# EAGLE library part CORE3S500E (library Parts)
A Xilinx Spartan 3E FPGA module.
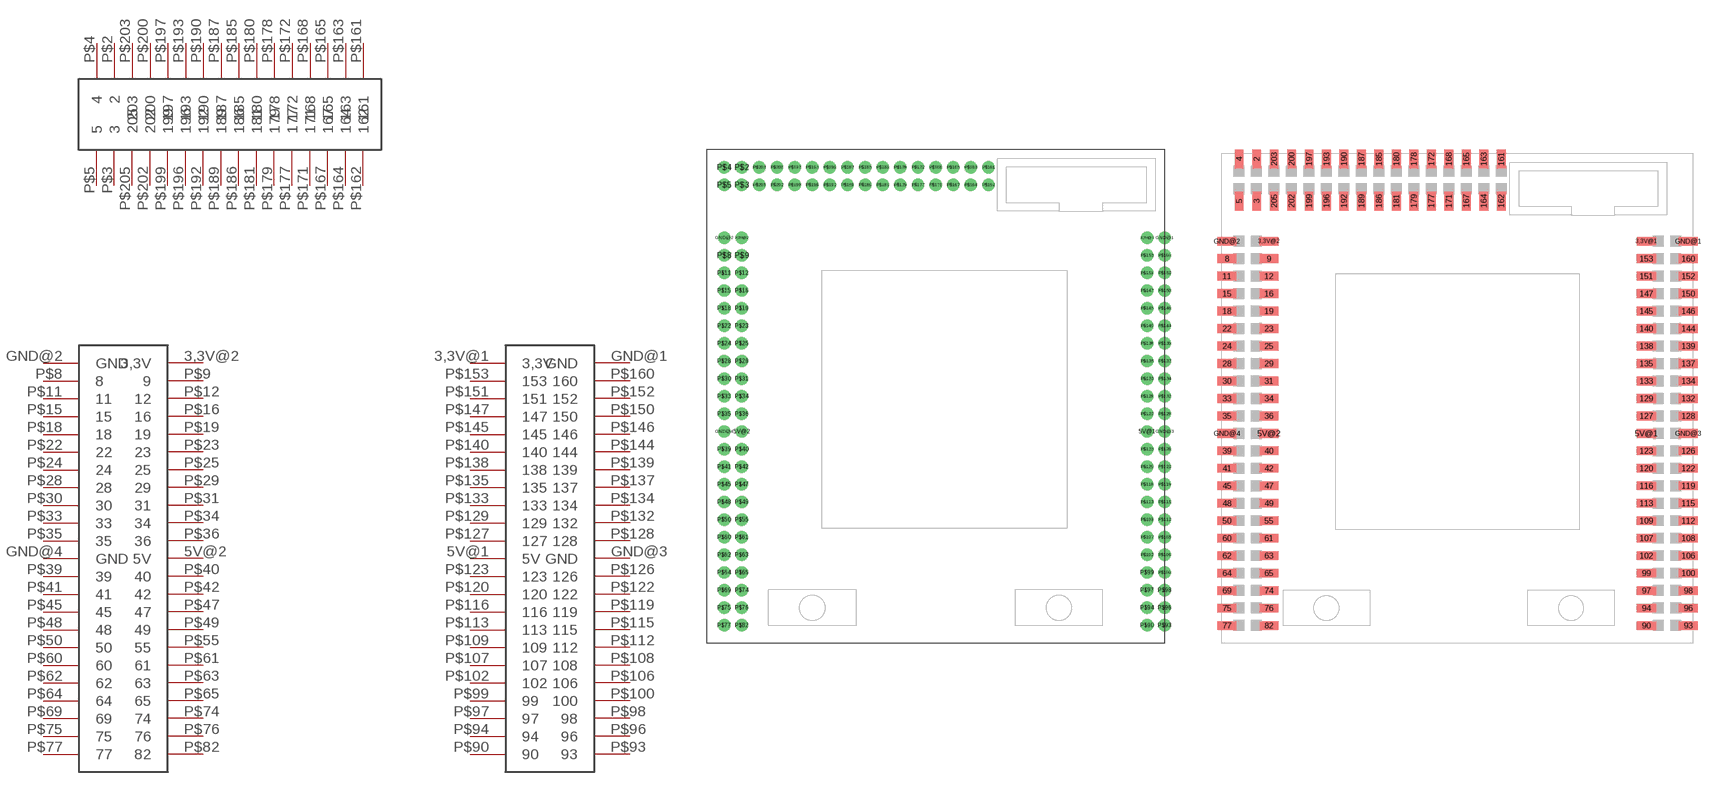
[diagram p0: symbol with the pads of CORE3S500E; footprints CORE3S500E, CORE3S500E-SMT]

Designator prefix DIP

## CORE3S500EDIP  [CORE3S500E]
3,3V@1  3,3V
3,3V@2  3,3V
5V@1  5V
5V@2  5V
GND@1  GND
GND@2  GND
GND@3  GND
GND@4  GND
P$2  2
P$3  3
P$4  4
P$5  5
P$8  8
P$9  9
P$11  11
P$12  12
P$15  15
P$16  16
P$18  18
P$19  19
P$22  22
P$23  23
P$24  24
P$25  25
P$28  28
P$29  29
P$30  30
P$31  31
P$33  33
P$34  34
P$35  35
P$36  36
P$39  39
P$40  40
P$41  41
P$42  42
P$45  45
P$47  47
P$48  48
P$49  49
P$50  50
P$55  55
P$60  60
P$61  61
P$62  62
P$63  63
P$64  64
P$65  65
P$69  69
P$74  74
P$75  75
P$76  76
P$77  77
P$82  82
P$90  90
P$93  93
P$94  94
P$96  96
P$97  97
P$98  98
P$99  99
P$100  100
P$102  102
P$106  106
P$107  107
P$108  108
P$109  109
P$112  112
P$113  113
P$115  115
P$116  116
P$119  119
P$120  120
P$122  122
P$123  123
P$126  126
P$127  127
P$128  128
P$129  129
P$132  132
P$133  133
P$134  134
P$135  135
P$137  137
P$138  138
P$139  139
P$140  140
P$144  144
P$145  145
P$146  146
P$147  147
P$150  150
P$151  151
P$152  152
P$153  153
P$160  160
P$161  161
P$162  162
P$163  163
P$164  164
P$165  165
P$167  167
P$168  168
P$171  171
P$172  172
P$177  177
P$178  178
P$179  179
P$180  180
P$181  181
P$185  185
P$186  186
P$187  187
P$189  189
P$190  190
P$192  192
P$193  193
P$196  196
P$197  197
P$199  199
P$200  200
P$202  202
P$203  203
P$205  205

## CORE3S500ESMT  [CORE3S500E-SMT]
2  2
3  3
3,3V@1  3,3V
3,3V@2  3,3V
4  4
5  5
5V@1  5V
5V@2  5V
8  8
9  9
11  11
12  12
15  15
16  16
18  18
19  19
22  22
23  23
24  24
25  25
28  28
29  29
30  30
31  31
33  33
34  34
35  35
36  36
39  39
40  40
41  41
42  42
45  45
47  47
48  48
49  49
50  50
55  55
60  60
61  61
62  62
63  63
64  64
65  65
69  69
74  74
75  75
76  76
77  77
82  82
90  90
93  93
94  94
96  96
97  97
98  98
99  99
100  100
102  102
106  106
107  107
108  108
109  109
112  112
113  113
115  115
116  116
119  119
120  120
122  122
123  123
126  126
127  127
128  128
129  129
132  132
133  133
134  134
135  135
137  137
138  138
139  139
140  140
144  144
145  145
146  146
147  147
150  150
151  151
152  152
153  153
160  160
161  161
162  162
163  163
164  164
165  165
167  167
168  168
171  171
172  172
177  177
178  178
179  179
180  180
181  181
185  185
186  186
187  187
189  189
190  190
192  192
193  193
196  196
197  197
199  199
200  200
202  202
203  203
205  205
GND@1  GND
GND@2  GND
GND@3  GND
GND@4  GND

## Footprint CORE3S500E (pad centres in mm)
Core3S500E The Xilinx Spartan 3E FPGA board from WaveShare.
drill 0.9 pad 1.27: 3,3V@1 23,19; 3,3V@2 -23,19; 5V@1 23,-3; 5V@2 -23,-3; GND@1 25,19; GND@2 -25,19; GND@3 25,-3; GND@4 -25,-3; P$2 -23,27; P$3 -23,25; P$4 -25,27; P$5 -25,25; P$8 -25,17; P$9 -23,17; P$11 -25,15; P$12 -23,15; P$15 -25,13; P$16 -23,13; P$18 -25,11; P$19 -23,11; P$22 -25,9; P$23 -23,9; P$24 -25,7; P$25 -23,7; P$28 -25,5; P$29 -23,5; P$30 -25,3; P$31 -23,3; P$33 -25,1; P$34 -23,1; P$35 -25,-1; P$36 -23,-1; P$39 -25,-5; P$40 -23,-5; P$41 -25,-7; P$42 -23,-7; P$45 -25,-9; P$47 -23,-9; P$48 -25,-11; P$49 -23,-11; P$50 -25,-13; P$55 -23,-13; P$60 -25,-15; P$61 -23,-15; P$62 -25,-17; P$63 -23,-17; P$64 -25,-19; P$65 -23,-19; P$69 -25,-21; P$74 -23,-21; P$75 -25,-23; P$76 -23,-23; P$77 -25,-25; P$82 -23,-25; P$90 23,-25; P$93 25,-25; P$94 23,-23; P$96 25,-23; P$97 23,-21; P$98 25,-21; P$99 23,-19; P$100 25,-19; P$102 23,-17; P$106 25,-17; P$107 23,-15; P$108 25,-15; P$109 23,-13; P$112 25,-13; P$113 23,-11; P$115 25,-11; P$116 23,-9; P$119 25,-9; P$120 23,-7; P$122 25,-7; P$123 23,-5; P$126 25,-5; P$127 23,-1; P$128 25,-1; P$129 23,1; P$132 25,1; P$133 23,3; P$134 25,3; P$135 23,5; P$137 25,5; P$138 23,7; P$139 25,7; P$140 23,9; P$144 25,9; P$145 23,11; P$146 25,11; P$147 23,13; P$150 25,13; P$151 23,15; P$152 25,15; P$153 23,17; P$160 25,17; P$161 5,27; P$162 5,25; P$163 3,27; P$164 3,25; P$165 1,27; P$167 1,25; P$168 -1,27; P$171 -1,25; P$172 -3,27; P$177 -3,25; P$178 -5,27; P$179 -5,25; P$180 -7,27; P$181 -7,25; P$185 -9,27; P$186 -9,25; P$187 -11,27; P$189 -11,25; P$190 -13,27; P$192 -13,25; P$193 -15,27; P$196 -15,25; P$197 -17,27; P$199 -17,25; P$200 -19,27; P$202 -19,25; P$203 -21,27; P$205 -21,25

## Footprint CORE3S500E-SMT (pad centres in mm)
Core3S500E The Xilinx Spartan 3E FPGA board from WaveShare.
smd 1 x 2.2: 2 -23,28.4; 3 -23,23.6; 4 -25,28.4; 5 -25,23.6; 161 5,28.4; 162 5,23.6; 163 3,28.4; 164 3,23.6; 165 1,28.4; 167 1,23.6; 168 -1,28.4; 171 -1,23.6; 172 -3,28.4; 177 -3,23.6; 178 -5,28.4; 179 -5,23.6; 180 -7,28.4; 181 -7,23.6; 185 -9,28.4; 186 -9,23.6; 187 -11,28.4; 189 -11,23.6; 190 -13,28.4; 192 -13,23.6; 193 -15,28.4; 196 -15,23.6; 197 -17,28.4; 199 -17,23.6; 200 -19,28.4; 202 -19,23.6; 203 -21,28.4; 205 -21,23.6
smd 2.2 x 1: 3,3V@1 21.6,19; 3,3V@2 -21.6,19; 5V@1 21.6,-3; 5V@2 -21.6,-3; 8 -26.4,17; 9 -21.6,17; 11 -26.4,15; 12 -21.6,15; 15 -26.4,13; 16 -21.6,13; 18 -26.4,11; 19 -21.6,11; 22 -26.4,9; 23 -21.6,9; 24 -26.4,7; 25 -21.6,7; 28 -26.4,5; 29 -21.6,5; 30 -26.4,3; 31 -21.6,3; 33 -26.4,1; 34 -21.6,1; 35 -26.4,-1; 36 -21.6,-1; 39 -26.4,-5; 40 -21.6,-5; 41 -26.4,-7; 42 -21.6,-7; 45 -26.4,-9; 47 -21.6,-9; 48 -26.4,-11; 49 -21.6,-11; 50 -26.4,-13; 55 -21.6,-13; 60 -26.4,-15; 61 -21.6,-15; 62 -26.4,-17; 63 -21.6,-17; 64 -26.4,-19; 65 -21.6,-19; 69 -26.4,-21; 74 -21.6,-21; 75 -26.4,-23; 76 -21.6,-23; 77 -26.4,-25; 82 -21.6,-25; 90 21.6,-25; 93 26.4,-25; 94 21.6,-23; 96 26.4,-23; 97 21.6,-21; 98 26.4,-21; 99 21.6,-19; 100 26.4,-19; 102 21.6,-17; 106 26.4,-17; 107 21.6,-15; 108 26.4,-15; 109 21.6,-13; 112 26.4,-13; 113 21.6,-11; 115 26.4,-11; 116 21.6,-9; 119 26.4,-9; 120 21.6,-7; 122 26.4,-7; 123 21.6,-5; 126 26.4,-5; 127 21.6,-1; 128 26.4,-1; 129 21.6,1; 132 26.4,1; 133 21.6,3; 134 26.4,3; 135 21.6,5; 137 26.4,5; 138 21.6,7; 139 26.4,7; 140 21.6,9; 144 26.4,9; 145 21.6,11; 146 26.4,11; 147 21.6,13; 150 26.4,13; 151 21.6,15; 152 26.4,15; 153 21.6,17; 160 26.4,17; GND@1 26.4,19; GND@2 -26.4,19; GND@3 26.4,-3; GND@4 -26.4,-3